# EAGLE library part SF_LLC (library tov)
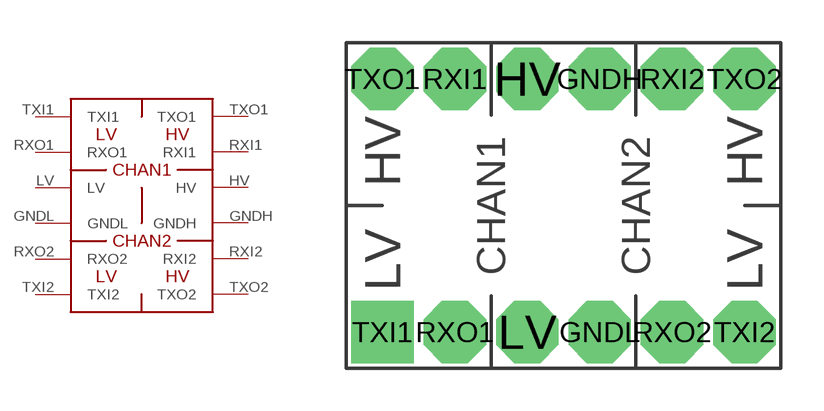
[diagram p0: symbol with the pads of SF_LLC; footprint SF_LLC]

Designator prefix -

## SF_LLC  [SF_LLC]
GNDH  GNDH
GNDL  GNDL
HV  HV
LV  LV
RXI1  RXI1
RXI2  RXI2
RXO1  RXO1
RXO2  RXO2
TXI1  TXI1
TXI2  TXI2
TXO1  TXO1
TXO2  TXO2

## Footprint SF_LLC (pad centres in mm)
drill 1.1 pad 2.184 octagon: GNDH 7.62,8.89; GNDL 7.62,0; HV 5.08,8.89; LV 5.08,0; RXI1 2.54,8.89; RXI2 10.16,8.89; RXO1 2.54,0; RXO2 10.16,0; TXI2 12.7,0; TXO1 0,8.89; TXO2 12.7,8.89
drill 1.1 pad 2.184 square: TXI1 0,0